# Altium footprint library PHOTODIODE_V1.3.0.PcbLib: 26 footprints (part 1 of 2)
Each footprint in its own frame and in the unit in brackets; x right, y up, seen from the top. Pads: shape width x height; smd on the part's side, far side on the other; paste and mask are expansions set on the pad; w line width, h text height; cw(c..) or ccw(c..) is an arc to the next point about the centre after c.
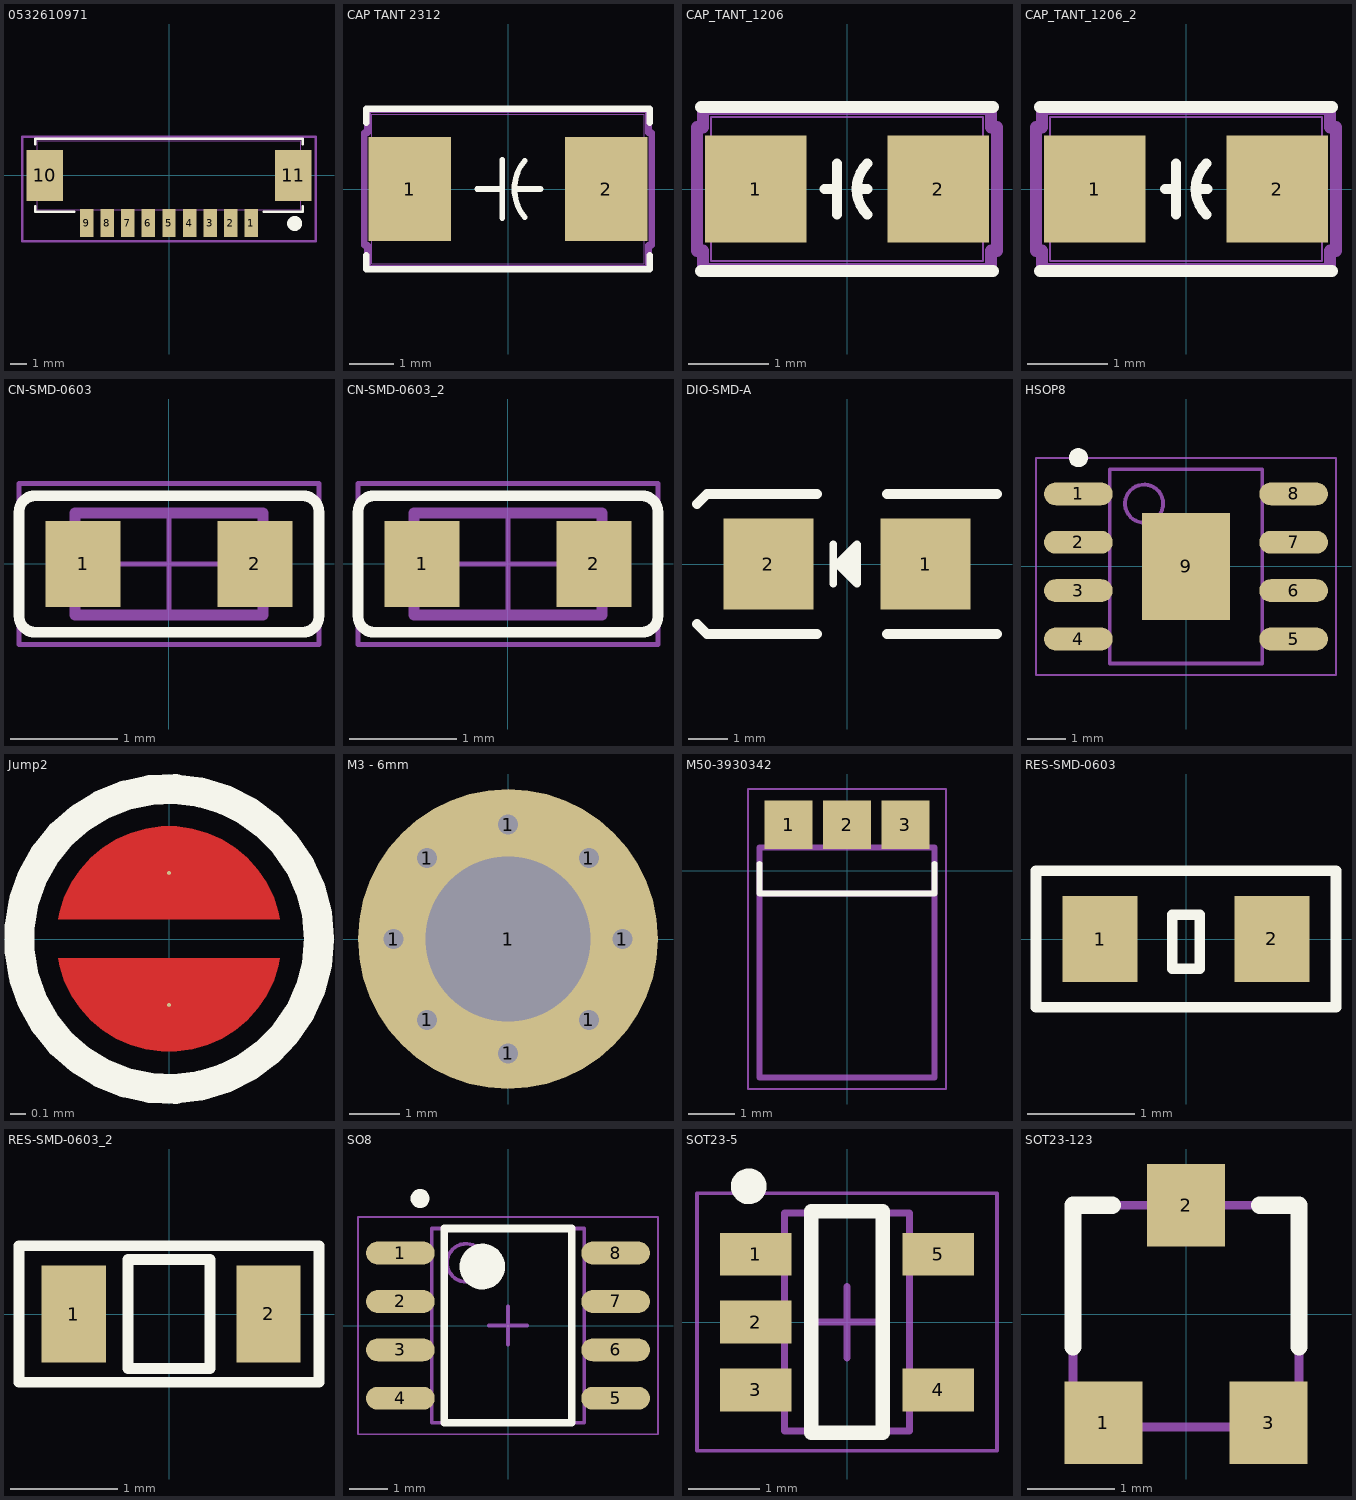
[diagram p0: the footprints below, top view; thin cyan lines are the x and y axes]

## 0532610971 [mil] "CONN HEADER SMD R/A 9POS 1.25MM"
height 200
pads (11):
  rect 32x67 smd: 1(196.85,-114.35) 2(147.64,-114.35) 3(98.43,-114.35) 4(49.21,-114.35) 5(0,-114.35) 6(-49.21,-114.35) 7(-98.43,-114.35) 8(-147.64,-114.35) 9(-196.85,-114.35)
  rect 87x122 smd: 10(-297.24,-0.18) 11(297.24,-0.18)
Top Overlay:
  circle w20: c300,-115 r8
  lines w6: -320,-74.28 -320,-87.5 -225.95,-87.5 ; -320,73.92 -320,87.5 320,87.5 320,73.92 ; 225.95,-87.5 320,-87.5 320,-74.28
Top 3D Body:
  lines w1: -315,-82.5 315,-82.5 315,82.5 -315,82.5 -315,-82.5
Top Courtyard:
  lines w6: -350.74,-157.85 -350.74,92.5 350.74,92.5 350.74,-157.85 -350.74,-157.85
3D body "532610971.stp": height 133.86, standoff 0, extent -322.83,-122.22 322.83,82.5

## CAP TANT 2312 [mil]
height 200
pads (2):
  rect 74x93 smd paste+0 mask+1.97: 1(-88,0) 2(88,0)
Top Overlay:
  lines w5: -27.56,0 -5,0 ; -5,-25.98 -5,26.38 ; 6.97,0 29.13,0 ; 14.92,-25.19 cw(c45.08,0.12) 14.92,25.43
  lines w6: -127,-59.45 -127,-72 127,-72 127,-59.45 ; -127,59.45 -127,72 127,72 127,59.45
Top 3D Body:
  lines w1: -122,-67 122,-67 122,67 -122,67 -122,-67
Top Courtyard:
  lines w6: -129,-50.5 -129,50.5 -126,50.5 -126,71 126,71 126,50.5 129,50.5 129,-50.5 126,-50.5 126,-71 -126,-71 -126,-50.5 -129,-50.5
3D body "TAJC107K016RNJ.step": height 110.24, standoff 0, extent -118.11,-62.99 118.11,62.99

## CAP_TANT_1206 [mil]
height 336.22
pads (2):
  rect 49.98x53 smd paste+0 mask+0: 1(-45.01,0) 2(45.01,0)
Top Overlay:
  lines w5: -11.06,0 -5,0 ; -5,-12.5 -5,12.5 ; 5,0 9.97,0 ; 9.97,-12.5 cw(c22.47,0) 9.97,12.5
  lines w6: -72,-40.5 72,-40.5 ; -72,40.5 72,40.5
Top 3D Body:
  lines w1: -67,-35.5 67,-35.5 67,35.5 -67,35.5 -67,-35.5
Top Courtyard:
  lines w6: -74,-30.5 -74,30.5 -71,30.5 -71,39.5 71,39.5 71,30.5 74,30.5 74,-30.5 71,-30.5 71,-39.5 -71,-39.5 -71,-30.5 -74,-30.5
3D body "TLJA107M010R1400.step": height 70.87, standoff 0, extent -62.99,-31.5 62.99,31.5

## CAP_TANT_1206_2 [mil]
pads (2):
  rect 49.98x53 smd paste+0 mask+0: 1(-45.01,0) 2(45.01,0)
Top Overlay:
  lines w5: -10.36,0 -5,0 ; -5,-12.5 -5,12.5 ; 5,0 10.64,0 ; 9.97,-12.5 cw(c22.47,0) 9.97,12.5
  lines w6: -72,-40.5 72,-40.5 ; -72,40.5 72,40.5
Top 3D Body:
  lines w1: -67,-35.5 -67,35.5 67,35.5 67,-35.5 -67,-35.5
Top Courtyard:
  lines w6: -74,-30.5 -71,-30.5 -71,-39.5 71,-39.5 71,-30.5 74,-30.5 74,30.5 71,30.5 71,39.5 -71,39.5 -71,30.5 -74,30.5 -74,-30.5
3D body "TLJA107M010R1400.step": height 70.87, standoff 0, extent -62.99,-31.5 62.99,31.5

## CN-SMD-0603 [mm]
height 8.54
pads (2):
  rect 0.7x0.8 smd: 1(-0.8,0) 2(0.8,0)
Top Overlay:
  lines w0.1: -1.397,-0.485 ccw(c-1.247,-0.485) -1.247,-0.635 1.247,-0.635 ccw(c1.247,-0.485) 1.397,-0.485 1.397,0.485 ccw(c1.247,0.485) 1.247,0.635 -1.247,0.635 ccw(c-1.247,0.485) -1.397,0.485 -1.397,-0.485
Top 3D Body:
  lines w0.1: -0.875,-0.475 -0.875,0.475 0.875,0.475 0.875,-0.475 -0.875,-0.475
Top Courtyard:
  lines w0.05: -0.475,0 0.475,0 ; 0,-0.475 0,0.475 ; -1.397,-0.75 -1.397,0.75 1.397,0.75 1.397,-0.75 -1.397,-0.75
3D body "User Library-0603 SMD Capacitor.step": height 0.3, standoff 0, extent -0.8,-0.4 0.8,0.4

## CN-SMD-0603_2 [mm]
pads (2):
  rect 0.7x0.8 smd: 1(-0.8,0) 2(0.8,0)
Top Overlay:
  lines w0.1: -1.397,-0.485 ccw(c-1.247,-0.485) -1.247,-0.635 1.247,-0.635 ccw(c1.247,-0.485) 1.397,-0.485 1.397,0.485 ccw(c1.247,0.485) 1.247,0.635 -1.247,0.635 ccw(c-1.247,0.485) -1.397,0.485 -1.397,-0.485
Top 3D Body:
  lines w0.1: -0.875,-0.475 -0.875,0.475 0.875,0.475 0.875,-0.475 -0.875,-0.475
Top Courtyard:
  lines w0.05: -0.475,0 0.475,0 ; 0,-0.475 0,0.475 ; -1.397,-0.75 -1.397,0.75 1.397,0.75 1.397,-0.75 -1.397,-0.75
3D body "User Library-0603 SMD Capacitor.step": height 0.3, standoff 0, extent -0.8,-0.4 0.8,0.4

## DIO-SMD-A [mm]
pads (2):
  rect 2.286x2.3 smd: 1(2,0) 2(-2,0)
Top Overlay:
  lines w0.2: -0.35,-0.5 -0.35,0.5 ; 0,-0.15 0,0.15 ; 0.15,-0.3 0.15,0.3 ; -0.25,0 0.25,0.5 0.25,-0.5 -0.25,0
  lines w0.254: -3.81,-1.524 -3.556,-1.778 -0.762,-1.778 ; -3.81,1.524 -3.556,1.778 -0.762,1.778 ; 1.016,-1.778 3.81,-1.778 ; 1.016,1.778 3.556,1.778 3.81,1.778
Mechanical 1:
  lines w0.1: -0.166,0.127 0.234,0.127 ; 0.034,-0.073 0.034,0.327
3D body "User Library-DO-214Aa SMA.step": height 2.4, standoff 0, extent -2.6,-1.3 2.6,1.3

## HSOP8 [mm] "SOIC, 8-Leads, Body 4.9x3.9mm, Pitch 1.27mm, IPC High Density"
height 5.08
pads (9):
  oval 1.8x0.6 smd: 1(-2.825,1.905) 2(-2.825,0.635) 3(-2.825,-0.635) 4(-2.825,-1.905) 5(2.825,-1.905) 6(2.825,-0.635) 7(2.825,0.635) 8(2.825,1.905)
  rect 2.3x2.8 smd: 9(0,0)
Top Overlay:
  circle w0.25: c-2.825,2.855 r0.125
Top 3D Body:
  circle w0.1: c-1.1,1.65 r0.5
  lines w0.1: -2,-2.55 -2,2.55 2,2.55 2,-2.55 -2,-2.55
Top Courtyard:
  lines w0.05: -3.937,-2.85 -3.937,2.85 3.937,2.85 3.937,-2.85 -3.937,-2.85
  lines w0.1: -0.5,0 0.5,0 ; 0,-0.5 0,0.5
3D body "CircuitWorks-SO-8 (PIC12FXXX).step": height 1.6, standoff 0, extent -2.995,-2.45 2.995,2.45

## Jump2 [mil]
height 200
pads (2):
  round 1 smd paste+0 mask+0: 1(0,17.33) 2(0,-17.32)
Top Layer:
  region: -29.08,5.13 -28.72,7.16 -27.44,11.09 -25.63,14.8 -23.32,18.23 -20.56,21.3 -17.4,23.95 -13.9,26.14 -10.12,27.82 -6.15,28.96 -2.06,29.53 2.06,29.53 6.15,28.96 10.12,27.82 13.9,26.14 17.4,23.95 20.56,21.3 23.32,18.23 25.63,14.8 27.44,11.09 28.72,7.16 29.08,5.13
  region: 29.08,-5.12 28.72,-7.15 27.44,-11.08 25.63,-14.79 23.32,-18.21 20.56,-21.28 17.4,-23.93 13.9,-26.12 10.12,-27.8 6.15,-28.94 2.06,-29.52 -2.06,-29.52 -6.15,-28.94 -10.12,-27.8 -13.9,-26.12 -17.4,-23.93 -20.56,-21.28 -23.32,-18.21 -25.63,-14.79 -27.44,-11.08 -28.72,-7.15 -29.08,-5.12
Top Overlay:
  circle w7.87: c0,0 r39.37

## M3 - 6mm [mm] "3.3 x 6mm"
pads (9):
  round 0.7 hole 0.4: 1(-2.286,0) 1(-1.616,-1.616) 1(-1.616,1.616) 1(0,-2.286) 1(0,2.286) 1(1.616,-1.616) 1(1.616,1.616) 1(2.286,0)
  round 6 hole 3.3 mask+0.102: 1(0,0)

## M50-3930342 [mm]
height 5.08
pads (3):
  rect 1.05x1.05 smd mask+0: 1(-1.27,1) 2(0,1) 3(1.27,1)
Top Overlay:
  lines w0.127: -1.905,0.15 -1.905,-0.5 1.905,-0.5 1.905,0.15
Top 3D Body:
  lines w0.127: -1.905,-0.5 -1.905,0.5 1.905,0.5 1.905,-0.5 ; -1.905,-0.5 1.905,-0.5 ; -1.905,-0.5 -1.905,-4.5 1.905,-4.5 1.905,-0.5
Top Courtyard:
  lines w0.05: -2.155,-4.75 -2.155,1.775 2.155,1.775 2.155,-4.75 -2.155,-4.75
3D body "M50-3930342.STEP": height 2.05, standoff -2.45, extent -1.906,-4.508 1.905,1.192
3D body "m50-1900005.stp": height 1.75, standoff 0.25, extent -0.595,-3.509 1.905,-0.509

## RES-SMD-0603 [mm]
height 8.54
pads (2):
  rect 0.7x0.8 smd: 1(-0.8,0) 2(0.8,0)
Top Overlay:
  lines w0.1: -1.397,-0.635 0.889,-0.635 1.397,-0.635 1.397,0.635 -1.397,0.635 -1.397,-0.635 ; -0.127,-0.277 0.127,-0.277 0.127,0.225 -0.127,0.225 -0.127,-0.277
3D body "User Library-SMD RESISTOR-1 (3).step": height 0.43, standoff -0.03, extent -0.8,-0.4 0.8,0.4

## RES-SMD-0603_2 [mm]
pads (2):
  rect 0.6x0.9 smd: 1(-0.889,0) 2(0.927,0)
Top Overlay:
  lines w0.1: -1.397,-0.635 -1.397,0.635 1.397,0.635 1.397,-0.635 0.889,-0.635 -1.397,-0.635 ; -0.381,-0.508 -0.381,0.508 0.381,0.508 0.381,-0.508 -0.381,-0.508
3D body "User Library-SMD RESISTOR-1 (3).step": height 0.43, standoff -0.03, extent -0.8,-0.4 0.8,0.4

## SO8 [mm] "SOIC, 8-Leads, Body 4.9x3.9mm, Pitch 1.27mm, IPC High Density"
height 5.08
pads (8):
  oval 1.8x0.6 smd: 1(-2.825,1.905) 2(-2.825,0.635) 3(-2.825,-0.635) 4(-2.825,-1.905) 5(2.825,-1.905) 6(2.825,-0.635) 7(2.825,0.635) 8(2.825,1.905)
Top Overlay:
  circle w0.6: c-0.675,1.55 r0.3
  circle w0.25: c-2.31,3.337 r0.125
  lines w0.2: -1.675,-2.55 1.675,-2.55 1.675,2.55 -1.675,2.55 -1.675,-2.55
Top 3D Body:
  circle w0.1: c-1.1,1.65 r0.5
  lines w0.1: -2,-2.55 2,-2.55 2,2.55 -2,2.55 -2,-2.55
Top Courtyard:
  lines w0.05: -3.937,-2.85 3.937,-2.85 3.937,2.85 -3.937,2.85 -3.937,-2.85
  lines w0.1: -0.5,0 0.5,0 ; 0,-0.5 0,0.5
3D body "CircuitWorks-SO-8 (PIC12FXXX).step": height 1.6, standoff 0, extent -2.995,-2.45 2.995,2.45

## SOT23-5 [mm] "SOT23-5"
height 1.45
pads (5):
  rect 1x0.6 smd: 1(-1.275,0.95) 2(-1.275,0) 3(-1.275,-0.95) 4(1.275,-0.95) 5(1.275,0.95)
Top Overlay:
  circle w0.25: c-1.375,1.9 r0.125
  lines w0.2: -0.5,-1.55 -0.5,1.55 0.5,1.55 0.5,-1.55 -0.5,-1.55
Top 3D Body:
  lines w0.1: -0.875,-1.525 -0.875,1.525 0.875,1.525 0.875,-1.525 -0.875,-1.525
Top Courtyard:
  lines w0.05: -2.1,-1.8 -2.1,1.8 2.1,1.8 2.1,-1.8 -2.1,-1.8
  lines w0.1: -0.5,0 0.5,0 ; 0,-0.5 0,0.5
3D body "SOT23-5.step": height 1.1, standoff 0, extent -1.25,-1.5 1.25,1.5

## SOT23-123 [mm] "SOT23, 1=bottom-left, 2=top, 3=bottom-right"
height 1.1
pads (3):
  rect 0.9x0.95 smd: 1(-0.95,-1.25) 2(0,1.25)
  rect 0.9x0.95 smd mask+0: 3(0.95,-1.25)
Top Overlay:
  lines w0.2: -1.3,-0.375 -1.3,1.25 -0.85,1.25 ; 0.85,1.25 1.3,1.25 1.3,-0.375
Mechanical 7:
  region: 1.225,-1.275 0.625,-1.275 0.625,-1.525 1.225,-1.525
  region: -0.625,-1.275 -1.225,-1.275 -1.225,-1.525 -0.625,-1.525
  rectangle: -0.3,1.25 0.3,1.5
  lines w0.1: -1.3,-1.3 1.3,-1.3 1.3,1.25 -1.3,1.25 -1.3,-1.3
  text ".Designator" at -1.2,0.75 h0.5
  text ".Comment" at -1.2,0.325 h0.5
3D body "SW3DPS-SOT-23-DEFAULT.STEP": height 1.06, standoff -0.04, extent -1.524,-1.23 1.476,1.27